# Altium schematic symbol library SN74LVC3G34DCUR.SchLib: 1 symbol
Pins are listed as number, name and electrical type; pins without a type are passive.

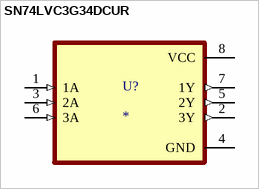
[diagram p0: symbol SN74LVC3G34DCUR]

## SN74LVC3G34DCUR
designator U?
Triple Buffer Gate 8-VSSOP -40 to 125; MP: SN74LVC3G34DCUR; MF: Texas Instruments; Package: VSSOP-8 Texas Instruments; Purchase-URL: https://pricing.snapeda.com/search/part/SN74LVC3G34DCUR/?ref=eda; Check_prices: https://www.snapeda.com/parts/SN74LVC3G34DCUR/Texas%20Instruments/view-part/328756/?ref=eda; Digi-Key_Part_Number: 296-13286-1-ND; SnapEDA_Link: https://www.snapeda.com/parts/SN74LVC3G34DCUR/Texas%20Instruments/view-part/328756/?ref=snap; Value: *
footprint SOP50P310X90-8N
pins: 1 1A (in), 2 3Y (out), 3 2A (in), 4 GND (power), 5 2Y (out), 6 3A (in), 7 1Y (out), 8 VCC (power)